# Altium integrated library STMicroelectronics STM32 L1.IntLib: 27 symbols (part 2 of 2)
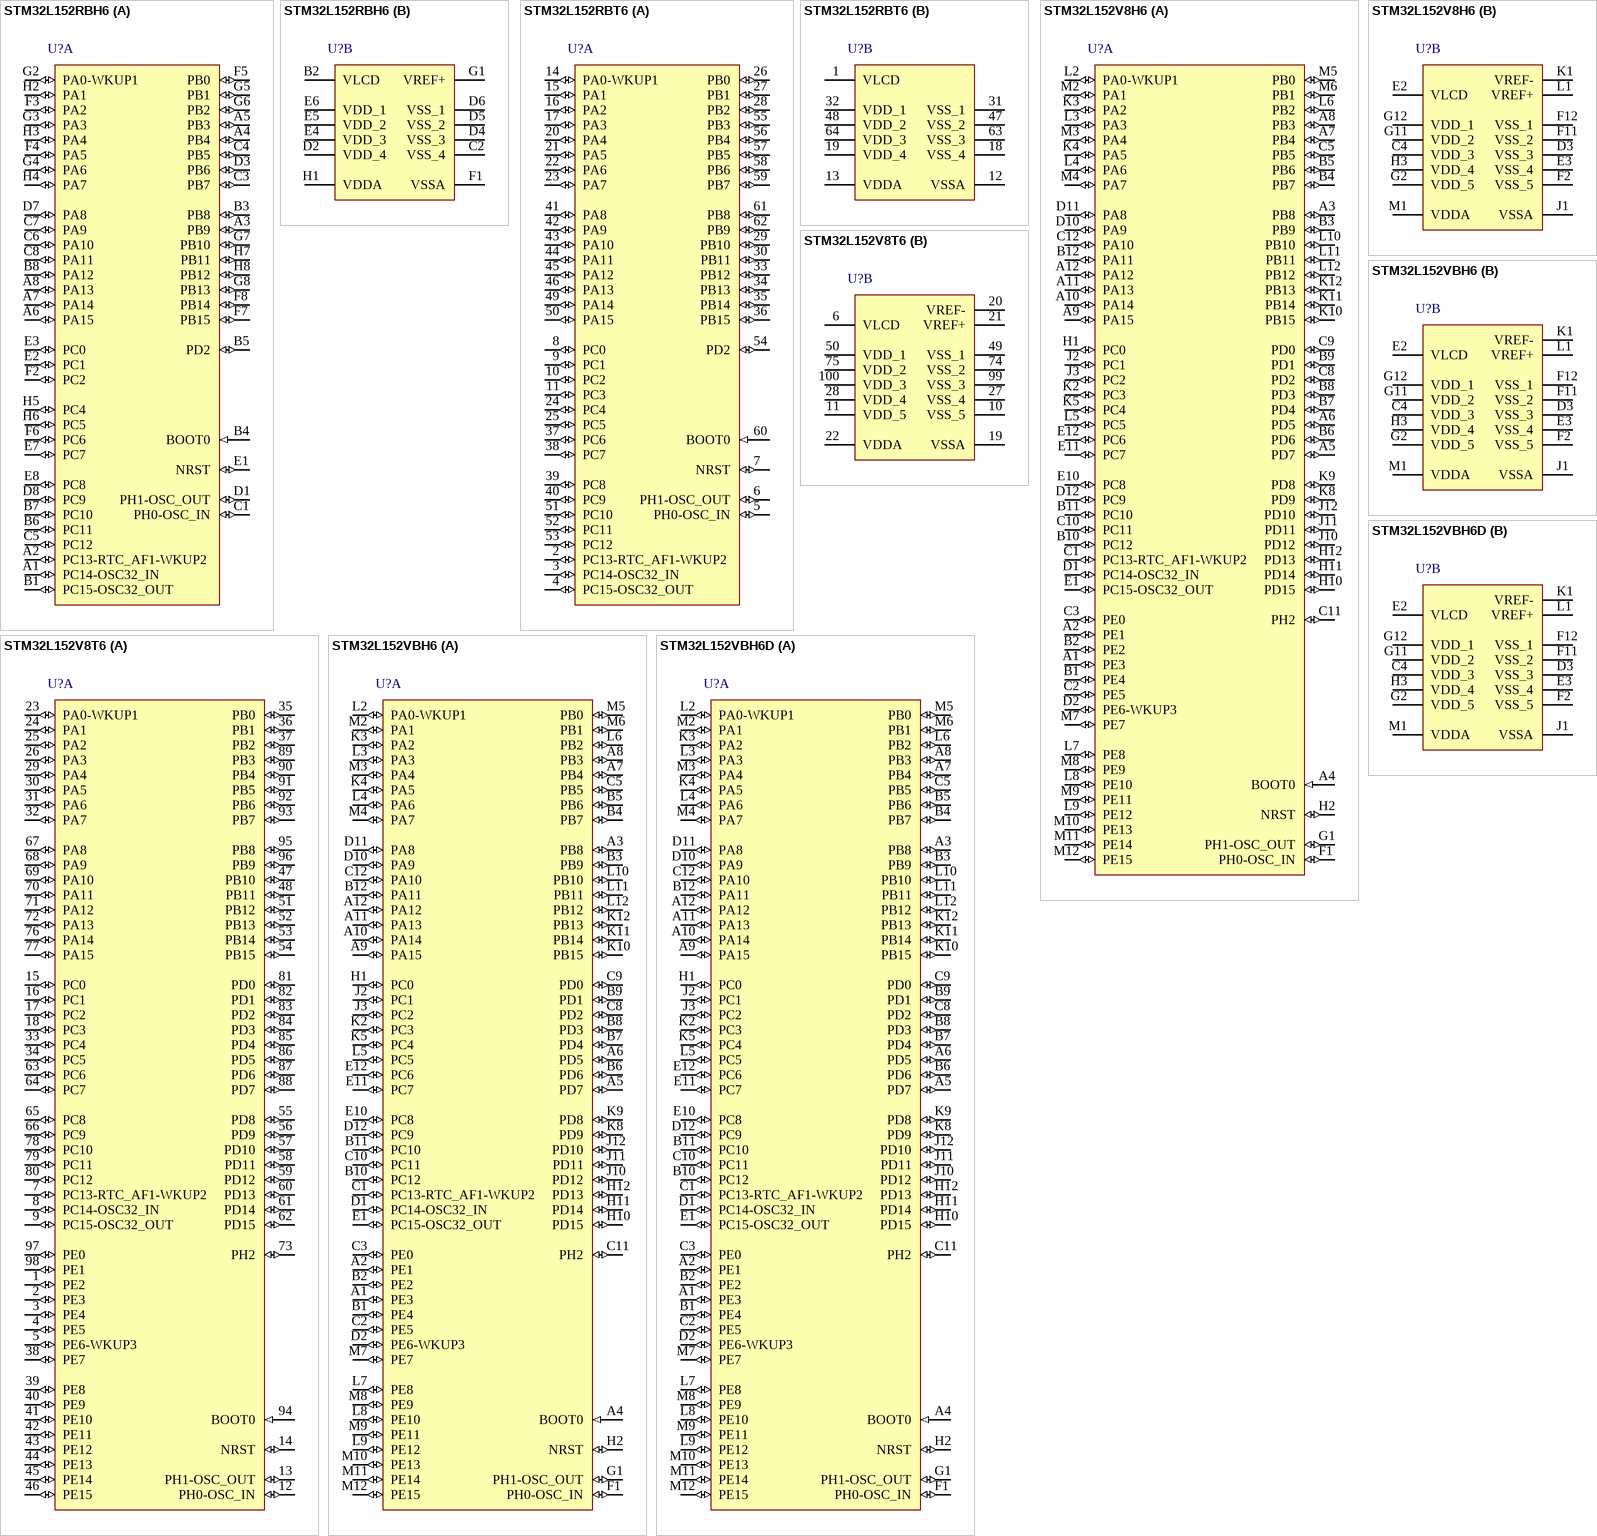
[diagram p5: symbols STM32L152RBH6 to STM32L152VBH6D]

## STM32L152VBH6D
designator U?
STM32L ARM-based EnergyLite 32-bit MCU, LCD, 128 kB Flash, 16 kB Internal RAM, 1.65 to 3.6VDD, -40 to +85°C Temperature, 100-pin UFBGA, Tray; DatasheetVersion: rev6, Jan-2012; PackageVersion: 2011; PackageReference: UFBGA100; PackageDescription: 100-Ball Ultra Fine-Pitch Ball Grid Array, 7 x 7 mm Body, 0.5 mm Pitch; ComponentLink1Description: Manufacturer URL; ComponentLink1URL: http://www.st.com/; ComponentLink2Description: STM32L151/152 Datasheet; ComponentLink2URL: http://www.st.com/internet/com/TECHNICAL_RESOURCES/TECHNICAL_LITERATURE/DATASHEET/CD00277537.pdf; ComponentLink3Description: STM32 L1 Family Web Page; ComponentLink3URL: http://www.st.com/internet/mcu/subclass/1376.jsp
footprint UFBGA100 (BGA, 100-Leads, Body 7x7mm, Pitch 0.5mm)
part A pins: A1 PE3 (io), A2 PE1 (io), A3 PB8 (io), A4 BOOT0 (in), A5 PD7 (io), A6 PD5 (io), A7 PB4 (io), A8 PB3 (io), A9 PA15 (io), A10 PA14 (io), A11 PA13 (io), A12 PA12 (io), B1 PE4 (io), B2 PE2 (io), B3 PB9 (io), B4 PB7 (io), B5 PB6 (io), B6 PD6 (io), B7 PD4 (io), B8 PD3 (io), B9 PD1 (io), B10 PC12 (io), B11 PC10 (io), B12 PA11 (io), C1 PC13-RTC_AF1-WKUP2 (io), C2 PE5 (io), C3 PE0 (io), C5 PB5 (io), C8 PD2 (io), C9 PD0 (io), C10 PC11 (io), C11 PH2 (io), C12 PA10 (io), D1 PC14-OSC32_IN (io), D2 PE6-WKUP3 (io), D10 PA9 (io), D11 PA8 (io), D12 PC9 (io), E1 PC15-OSC32_OUT (io), E10 PC8 (io), E11 PC7 (io), E12 PC6 (io), F1 PH0-OSC_IN (io), G1 PH1-OSC_OUT (io), H1 PC0 (io), H2 NRST (io), H10 PD15 (io), H11 PD14 (io), H12 PD13 (io), J2 PC1 (io), J3 PC2 (io), J10 PD12 (io), J11 PD11 (io), J12 PD10 (io), K2 PC3 (io), K3 PA2 (io), K4 PA5 (io), K5 PC4 (io), K8 PD9 (io), K9 PD8 (io), K10 PB15 (io), K11 PB14 (io), K12 PB13 (io), L2 PA0-WKUP1 (io), L3 PA3 (io), L4 PA6 (io), L5 PC5 (io), L6 PB2 (io), L7 PE8 (io), L8 PE10 (io), L9 PE12 (io), L10 PB10 (io), L11 PB11 (io), L12 PB12 (io), M2 PA1 (io), M3 PA4 (io), M4 PA7 (io), M5 PB0 (io), M6 PB1 (io), M7 PE7 (io), M8 PE9 (io), M9 PE11 (io), M10 PE13 (io), M11 PE14 (io), M12 PE15 (io)
part B pins: C4 VDD_3 (power), D3 VSS_3 (power), E2 VLCD (power), E3 VSS_4 (power), F2 VSS_5 (power), F11 VSS_2 (power), F12 VSS_1 (power), G2 VDD_5 (power), G11 VDD_2 (power), G12 VDD_1 (power), H3 VDD_4 (power), J1 VSSA (power), K1 VREF- (power), L1 VREF+ (power), M1 VDDA (power)

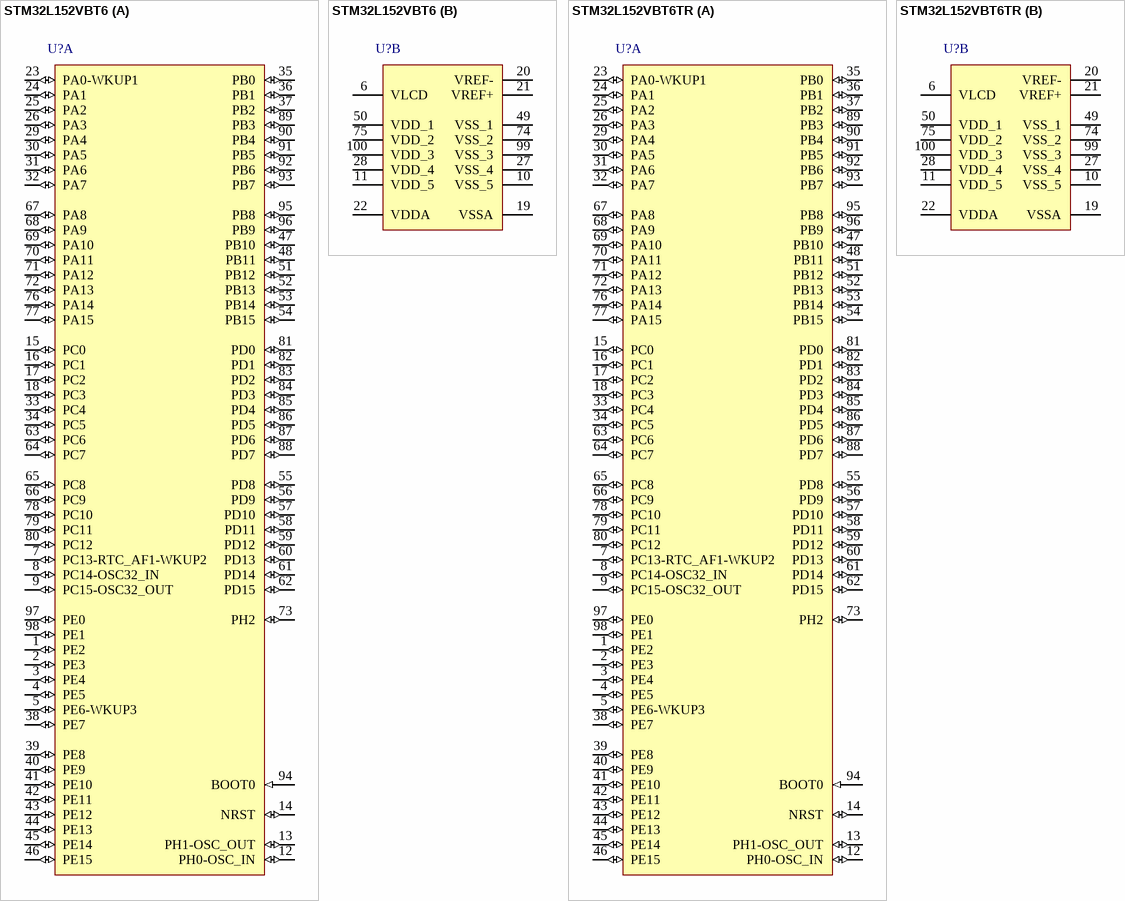
[diagram p4: symbols STM32L152VBT6 to STM32L152VBT6TR]

## STM32L152VBT6
designator U?
STM32L ARM-based EnergyLite 32-bit MCU, LCD, 128 kB Flash, 16 kB Internal RAM, -40 to +85°C Temperature, 100-pin LQFP, Tray; DatasheetVersion: rev6, Jan-2012; PackageVersion: 2012; PackageReference: LQFP100; PackageDescription: 100-Pin Low Profile Quad Flat Package, 14x14 mm Body, 0.5 mm Pitch; ComponentLink1Description: Manufacturer URL; ComponentLink1URL: http://www.st.com/; ComponentLink2Description: STM32L151/152 Datasheet; ComponentLink2URL: http://www.st.com/internet/com/TECHNICAL_RESOURCES/TECHNICAL_LITERATURE/DATASHEET/CD00277537.pdf; ComponentLink3Description: STM32 L1 Family Web Page; ComponentLink3URL: http://www.st.com/internet/mcu/subclass/1376.jsp
footprint LQFP100_V (Thin QFP, 100-Leads, Body 14x14mm, Pitch 0.5mm, ST Recommended)
footprint LQFP100_N (Thin QFP, 100-Leads, Body 14x14mm, Pitch 0.5mm, IPC Medium Density)
footprint LQFP100_L (Thin QFP, 100-Leads, Body 14x14mm, Pitch 0.5mm, IPC High Density)
footprint LQFP100_M (Thin QFP, 100-Leads, Body 14x14mm, Pitch 0.5mm, IPC Low Density)
part A pins: 1 PE2 (io), 2 PE3 (io), 3 PE4 (io), 4 PE5 (io), 5 PE6-WKUP3 (io), 7 PC13-RTC_AF1-WKUP2 (io), 8 PC14-OSC32_IN (io), 9 PC15-OSC32_OUT (io), 12 PH0-OSC_IN (io), 13 PH1-OSC_OUT (io), 14 NRST (io), 15 PC0 (io), 16 PC1 (io), 17 PC2 (io), 18 PC3 (io), 23 PA0-WKUP1 (io), 24 PA1 (io), 25 PA2 (io), 26 PA3 (io), 29 PA4 (io), 30 PA5 (io), 31 PA6 (io), 32 PA7 (io), 33 PC4 (io), 34 PC5 (io), 35 PB0 (io), 36 PB1 (io), 37 PB2 (io), 38 PE7 (io), 39 PE8 (io), 40 PE9 (io), 41 PE10 (io), 42 PE11 (io), 43 PE12 (io), 44 PE13 (io), 45 PE14 (io), 46 PE15 (io), 47 PB10 (io), 48 PB11 (io), 51 PB12 (io), 52 PB13 (io), 53 PB14 (io), 54 PB15 (io), 55 PD8 (io), 56 PD9 (io), 57 PD10 (io), 58 PD11 (io), 59 PD12 (io), 60 PD13 (io), 61 PD14 (io), 62 PD15 (io), 63 PC6 (io), 64 PC7 (io), 65 PC8 (io), 66 PC9 (io), 67 PA8 (io), 68 PA9 (io), 69 PA10 (io), 70 PA11 (io), 71 PA12 (io), 72 PA13 (io), 73 PH2 (io), 76 PA14 (io), 77 PA15 (io), 78 PC10 (io), 79 PC11 (io), 80 PC12 (io), 81 PD0 (io), 82 PD1 (io), 83 PD2 (io), 84 PD3 (io), 85 PD4 (io), 86 PD5 (io), 87 PD6 (io), 88 PD7 (io), 89 PB3 (io), 90 PB4 (io), 91 PB5 (io), 92 PB6 (io), 93 PB7 (io), 94 BOOT0 (in), 95 PB8 (io), 96 PB9 (io), 97 PE0 (io), 98 PE1 (io)
part B pins: 6 VLCD (power), 10 VSS_5 (power), 11 VDD_5 (power), 19 VSSA (power), 20 VREF- (power), 21 VREF+ (power), 22 VDDA (power), 27 VSS_4 (power), 28 VDD_4 (power), 49 VSS_1 (power), 50 VDD_1 (power), 74 VSS_2 (power), 75 VDD_2 (power), 99 VSS_3 (power), 100 VDD_3 (power)

## STM32L152VBT6TR
designator U?
STM32L ARM-based EnergyLite 32-bit MCU, LCD, 128 kB Flash, 16 kB Internal RAM, -40 to +85°C Temperature, 100-pin LQFP, Tape and Reel; DatasheetVersion: rev6, Jan-2012; PackageVersion: 2012; PackageReference: LQFP100; PackageDescription: 100-Pin Low Profile Quad Flat Package, 14x14 mm Body, 0.5 mm Pitch; ComponentLink1Description: Manufacturer URL; ComponentLink1URL: http://www.st.com/; ComponentLink2Description: STM32L151/152 Datasheet; ComponentLink2URL: http://www.st.com/internet/com/TECHNICAL_RESOURCES/TECHNICAL_LITERATURE/DATASHEET/CD00277537.pdf; ComponentLink3Description: STM32 L1 Family Web Page; ComponentLink3URL: http://www.st.com/internet/mcu/subclass/1376.jsp
footprint LQFP100_V (Thin QFP, 100-Leads, Body 14x14mm, Pitch 0.5mm, ST Recommended)
footprint LQFP100_N (Thin QFP, 100-Leads, Body 14x14mm, Pitch 0.5mm, IPC Medium Density)
footprint LQFP100_L (Thin QFP, 100-Leads, Body 14x14mm, Pitch 0.5mm, IPC High Density)
footprint LQFP100_M (Thin QFP, 100-Leads, Body 14x14mm, Pitch 0.5mm, IPC Low Density)
part A pins: 1 PE2 (io), 2 PE3 (io), 3 PE4 (io), 4 PE5 (io), 5 PE6-WKUP3 (io), 7 PC13-RTC_AF1-WKUP2 (io), 8 PC14-OSC32_IN (io), 9 PC15-OSC32_OUT (io), 12 PH0-OSC_IN (io), 13 PH1-OSC_OUT (io), 14 NRST (io), 15 PC0 (io), 16 PC1 (io), 17 PC2 (io), 18 PC3 (io), 23 PA0-WKUP1 (io), 24 PA1 (io), 25 PA2 (io), 26 PA3 (io), 29 PA4 (io), 30 PA5 (io), 31 PA6 (io), 32 PA7 (io), 33 PC4 (io), 34 PC5 (io), 35 PB0 (io), 36 PB1 (io), 37 PB2 (io), 38 PE7 (io), 39 PE8 (io), 40 PE9 (io), 41 PE10 (io), 42 PE11 (io), 43 PE12 (io), 44 PE13 (io), 45 PE14 (io), 46 PE15 (io), 47 PB10 (io), 48 PB11 (io), 51 PB12 (io), 52 PB13 (io), 53 PB14 (io), 54 PB15 (io), 55 PD8 (io), 56 PD9 (io), 57 PD10 (io), 58 PD11 (io), 59 PD12 (io), 60 PD13 (io), 61 PD14 (io), 62 PD15 (io), 63 PC6 (io), 64 PC7 (io), 65 PC8 (io), 66 PC9 (io), 67 PA8 (io), 68 PA9 (io), 69 PA10 (io), 70 PA11 (io), 71 PA12 (io), 72 PA13 (io), 73 PH2 (io), 76 PA14 (io), 77 PA15 (io), 78 PC10 (io), 79 PC11 (io), 80 PC12 (io), 81 PD0 (io), 82 PD1 (io), 83 PD2 (io), 84 PD3 (io), 85 PD4 (io), 86 PD5 (io), 87 PD6 (io), 88 PD7 (io), 89 PB3 (io), 90 PB4 (io), 91 PB5 (io), 92 PB6 (io), 93 PB7 (io), 94 BOOT0 (in), 95 PB8 (io), 96 PB9 (io), 97 PE0 (io), 98 PE1 (io)
part B pins: 6 VLCD (power), 10 VSS_5 (power), 11 VDD_5 (power), 19 VSSA (power), 20 VREF- (power), 21 VREF+ (power), 22 VDDA (power), 27 VSS_4 (power), 28 VDD_4 (power), 49 VSS_1 (power), 50 VDD_1 (power), 74 VSS_2 (power), 75 VDD_2 (power), 99 VSS_3 (power), 100 VDD_3 (power)